# EAGLE library part SP0505BAJTG (library Littelfuse_By_element14_Batch_1)
30pF 30kV Unidirectional TVS Array
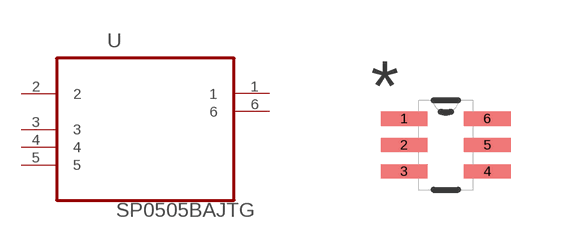
[diagram p0: symbol with the pads of SOT65P220X110-6N; footprint SOT65P220X110-6N]

Designator prefix U

## SP0505BAJTG (MPN: SP0505BAJTG; OC_FARNELL: 1827638; OC_NEWARK: 92K8964; PACKAGE: SC-70-6; SUPPLIER: LITTELFUSE)  [SOT65P220X110-6N]
1  1  pas
2  2  pas
3  3  pas
4  4  pas
5  5  pas
6  6  pas

## Footprint SOT65P220X110-6N (pad centres in mm)
smd 1.168 x 0.356: 1 -1.041,0.66; 2 -1.041,0; 3 -1.041,-0.66; 4 1.041,-0.66; 5 1.041,0; 6 1.041,0.66